# Altium footprint library to-case.PcbLib: 113 footprints (part 1 of 8)
Each footprint in its own frame and in the unit in brackets; x right, y up, seen from the top. Pads: shape width x height; smd on the part's side, far side on the other; paste and mask are expansions set on the pad; w line width, h text height; cw(c..) or ccw(c..) is an arc to the next point about the centre after c.
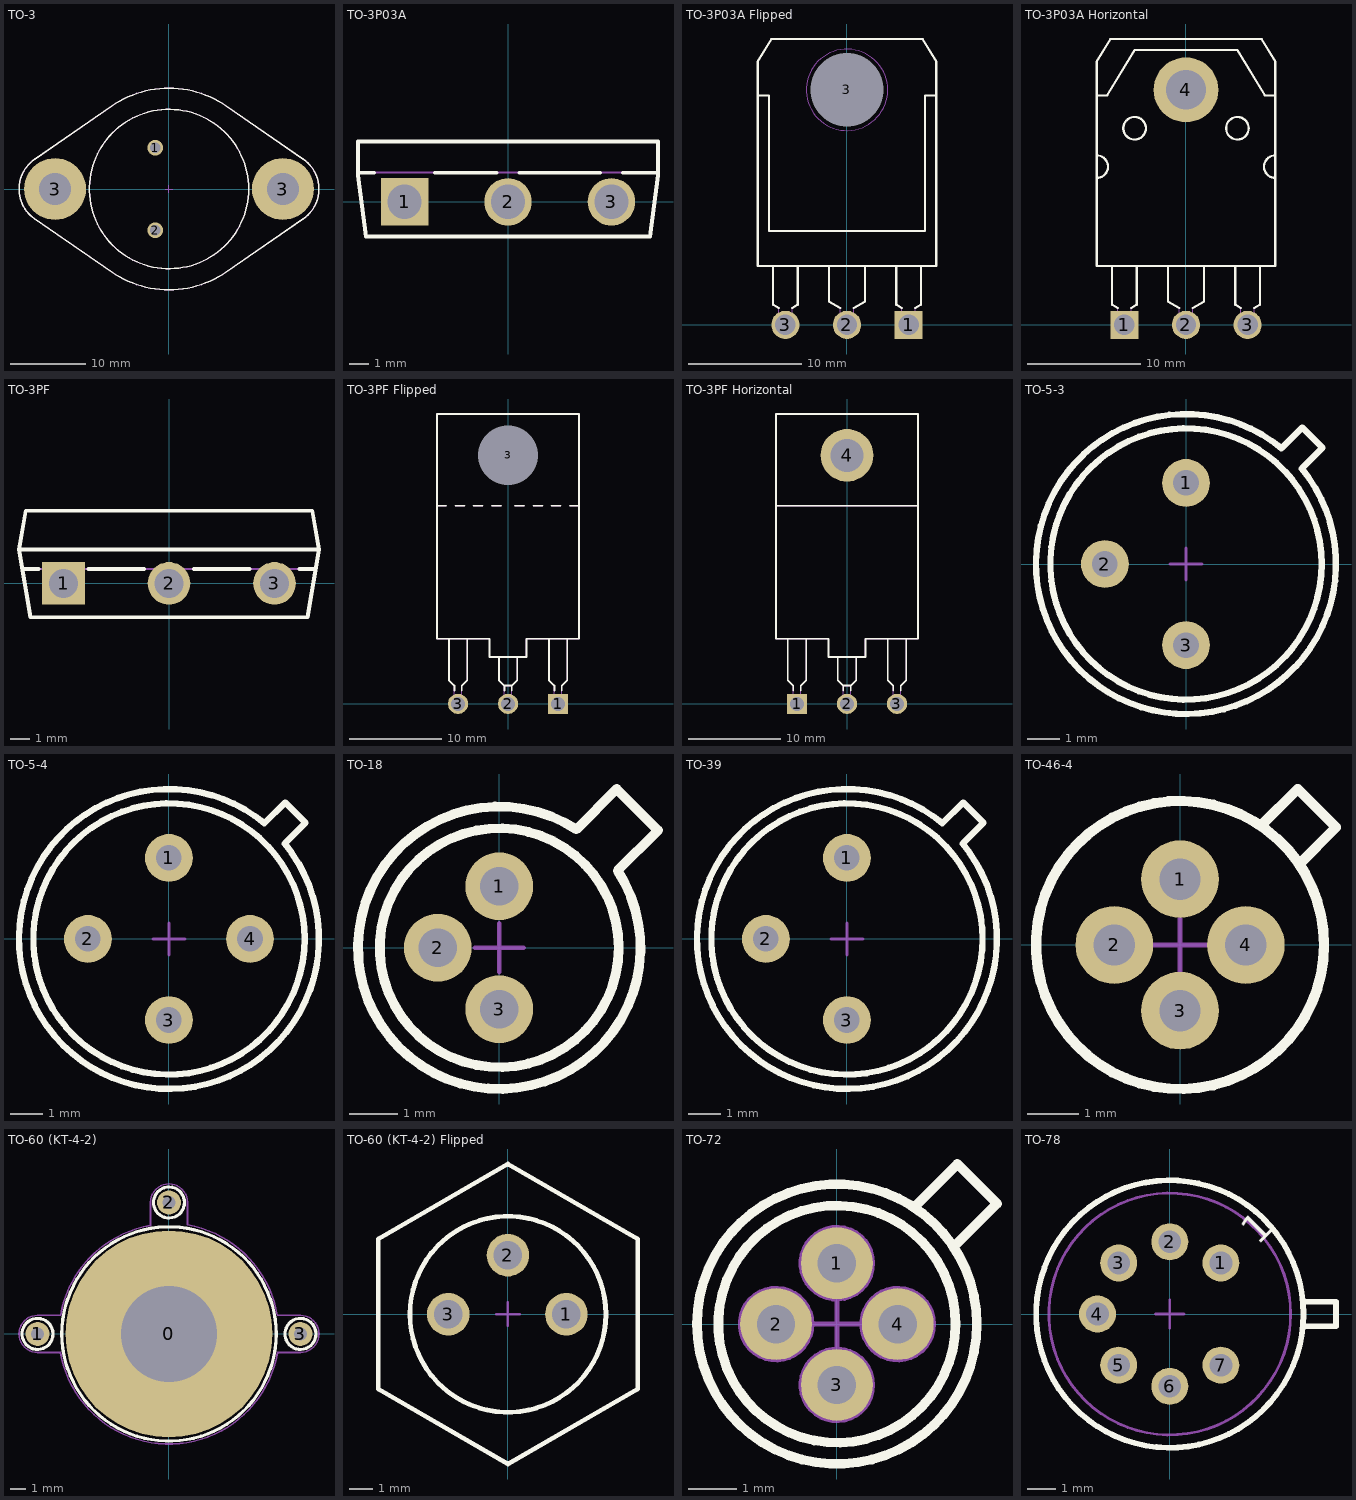
[diagram p0: the footprints below, top view; thin cyan lines are the x and y axes]

## TO-3 [mm] "TO-204 (TO-3) Case"
height 8.51
pads (4):
  round 2.1 hole 1.4: 1(-1.815,5.46) 2(-1.815,-5.46)
  round 8.2 hole 4.2: 3(-15.075,0) 3(15.075,0)
Top Overlay:
  circle w0.2: c0,0 r10.54
  lines w0.2: -17.785,-3.925 cw(c-15.075,0) -17.765,3.939 -7.576,10.974 cw(c0,0) 7.576,10.974 17.765,3.939 cw(c15.075,0) 17.765,-3.939 7.576,-10.974 cw(c0,0) -7.576,-10.974 -17.785,-3.925
Mechanical 1:
  circle w0.1: c0,0 r10.54
  circle w0.1: c-15.075,0 r2.095
  circle w0.1: c15.075,0 r2.095
  circle w0.1: c15.075,0 r1.95
  lines w0.1: -17.785,-3.925 cw(c-15.075,0) -17.765,3.939 -7.576,10.974 cw(c0,0) 7.576,10.974 17.765,3.939 cw(c15.075,0) 17.765,-3.939 7.576,-10.974 cw(c0,0) -7.576,-10.974 -17.785,-3.925
Mechanical 15:
  circle w0.1: c0,0 r10.54
  circle w0.1: c15.075,0 r2.095
  circle w0.1: c15.075,0 r1.95
  circle w0.1: c-15.075,0 r2.095
  lines w0.1: -0.5,0 0,0 ; 0,-0.5 0,0 ; 0,0.5 0,0 ; 0.5,0 0,0 ; -17.785,-3.925 cw(c-15.075,0) -17.765,3.939 -7.576,10.974 cw(c0,0) 7.576,10.974 17.765,3.939 cw(c15.075,0) 17.765,-3.939 7.576,-10.974 cw(c0,0) -7.576,-10.974 -17.785,-3.925
3D body "TO-3.stp": height 8.51, standoff -12.19, extent -19.845,-13.335 19.845,13.335

## TO-3P03A [mm] "FAIRCHILD TO3,  3-Terminal - Vertical Mount"
height 23.8
pads (3):
  rect 2.5x2.5 hole 1.8: 1(-5.45,0)
  round 2.5 hole 1.8: 2(0,0) 3(5.45,0)
Top Overlay:
  lines w0.2: -7.05,1.535 -7.9,1.535 ; -3.85,1.535 -0.605,1.535 ; 0.605,1.535 4.845,1.535 ; 6.055,1.535 7.9,1.535 ; -7.9,1.535 -7.9,1.375 -7.473,-1.825 7.473,-1.825 7.9,1.375 7.9,1.535 ; -7.9,1.535 -7.9,3.175 7.9,3.175 7.9,1.535
Mechanical 1:
  lines w0.1: -7.9,1.535 -7.9,1.375 -7.473,-1.825 7.473,-1.825 7.9,1.375 7.9,1.535 ; -7.9,1.535 -7.9,3.175 0,3.175 7.9,3.175 7.9,1.535 ; -7.9,1.535 7.9,1.535
Mechanical 8:
  lines w0.1: -5.95,0 -5.45,0 ; -5.45,-0.5 -5.45,0 ; -5.45,0.5 -5.45,0 ; -4.95,0 -5.45,0 ; 4.95,0 5.45,0 ; 5.45,-0.5 5.45,0 ; 5.45,0.5 5.45,0 ; 5.95,0 5.45,0
Mechanical 15:
  lines w0.1: -0.5,0 0,0 ; 0,-0.5 0,0 ; 0,0.5 0,0 ; 0.5,0 0,0 ; -7.9,1.535 -7.9,1.375 -7.473,-1.825 7.473,-1.825 7.9,1.375 7.9,1.535 ; -7.9,1.535 -7.9,3.175 0,3.175 7.9,3.175 7.9,1.535 ; -7.9,1.535 7.9,1.535
3D body "FAIRCHILD_TO-3P03A_v.stp": height 25.5, standoff -4, extent -7.9,-1.825 7.9,3.175

## TO-3P03A Flipped [mm] "FAIRCHILD TO3,  3-Terminal - Flipped Horizontal Mount"
height 5
pads (4):
  rect 2.5x2.5 hole 1.8: 1(5.45,0)
  round 2.5 hole 1.8: 2(0,0) 3(-5.45,0)
  round 1.5 hole 6.5 unplated mask+2.5: 3(0,20.8)
Top Overlay:
  lines w0.2: -7.9,20.3 -6.9,20.3 -6.9,8.3 6.9,8.3 6.9,20.3 7.9,20.3 ; -6.55,5.2 -6.55,1.789 -6.05,1.5 ; -4.85,1.5 -4.35,1.789 -4.35,5.2 ; -1.6,5.2 -1.6,2.077 -0.6,1.5 ; 0.6,1.5 1.6,2.077 1.6,5.2 ; 4.35,5.2 4.35,1.789 4.85,1.5 ; 6.05,1.5 6.55,1.789 6.55,5.2 ; -7.9,5.2 -7.9,23.3 -6.7,25.3 6.7,25.3 7.9,23.3 7.9,5.2 -7.9,5.2
Mechanical 1:
  circle w0.1: c0,20.8 r3.6
  circle w0.1: c0,20.8 r1.65
  lines w0.1: -7.9,20.3 -6.9,20.3 -6.9,8.3 6.9,8.3 6.9,20.3 7.9,20.3 ; -6.55,5.2 -6.55,1.789 -6.05,1.5 -6.05,-0.374 ; -6.05,-0.375 -4.85,-0.375 -4.85,1.5 -4.35,1.789 -4.35,5.2 ; -1.6,5.2 -1.6,2.077 -0.6,1.5 -0.6,-0.375 0.6,-0.375 0.6,1.5 1.6,2.077 1.6,5.2 ; 4.35,5.2 4.35,1.789 4.85,1.5 4.85,-0.375 6.05,-0.375 ; 6.05,-0.349 6.05,1.5 6.55,1.789 6.55,5.2 ; -7.9,5.2 -7.9,23.3 -6.7,25.3 6.7,25.3 7.9,23.3 7.9,5.2 -7.9,5.2
Mechanical 8:
  lines w0.1: -5.95,0 -5.45,0 ; -5.45,-0.5 -5.45,0 ; -5.45,0.5 -5.45,0 ; -4.95,0 -5.45,0 ; -0.5,20.8 0,20.8 ; 0,20.3 0,20.8 ; 0,21.3 0,20.8 ; 0.5,20.8 0,20.8 ; 4.95,0 5.45,0 ; 5.45,-0.5 5.45,0 ; 5.45,0.5 5.45,0 ; 5.95,0 5.45,0
Mechanical 15:
  circle w0.1: c0,20.8 r1.65
  circle w0.1: c0,20.8 r3.6
  lines w0.1: -7.9,20.3 -6.9,20.3 -6.9,8.3 6.9,8.3 6.9,20.3 7.9,20.3 ; -6.55,5.2 -6.55,1.789 -6.05,1.5 -6.05,-0.374 ; -6.05,-0.375 -4.85,-0.375 -4.85,1.5 -4.35,1.789 -4.35,5.2 ; -1.6,5.2 -1.6,2.077 -0.6,1.5 -0.6,-0.375 0.6,-0.375 0.6,1.5 1.6,2.077 1.6,5.2 ; -0.5,0 0,0 ; 0,-0.5 0,0 ; 0,0.5 0,0 ; 0.5,0 0,0 ; 4.35,5.2 4.35,1.789 4.85,1.5 4.85,-0.375 6.05,-0.375 ; 6.05,-0.349 6.05,1.5 6.55,1.789 6.55,5.2 ; -7.9,5.2 7.9,5.2 7.9,23.3 6.7,25.3 -6.7,25.3 -7.9,23.3 -7.9,5.2
3D body "FAIRCHILD_TO-3P03A_hflip.stp": height 5, standoff -3.8, extent -7.9,-0.375 7.9,25.3

## TO-3P03A Horizontal [mm] "FAIRCHILD TO3,  3-Terminal - Horizontal Mount"
height 5
pads (4):
  rect 2.5x2.5 hole 1.8: 1(-5.45,0)
  round 2.5 hole 1.8: 2(0,0) 3(5.45,0)
  round 5.75 hole 3.5: 4(0,20.8)
Top Overlay:
  circle w0.2: c-4.55,17.4 r1
  circle w0.2: c4.55,17.4 r1
  lines w0.2: -7.9,13 ccw(c-7.9,14) -7.9,15 ; -7.9,20.3 -6.975,20.3 -4.562,24.321 4.562,24.321 6.975,20.3 7.873,20.3 ; -6.55,5.2 -6.55,1.789 -6.05,1.5 ; -4.85,1.5 -4.35,1.789 -4.35,5.2 ; -1.6,5.2 -1.6,2.077 -0.6,1.5 ; 0.6,1.5 1.6,2.077 1.6,5.2 ; 4.35,5.2 4.35,1.789 4.85,1.5 ; 6.05,1.5 6.55,1.789 6.55,5.2 ; 7.9,13 cw(c7.9,14) 7.9,15 ; -7.9,5.2 7.9,5.2 7.9,23.3 6.7,25.3 -6.7,25.3 -7.9,23.3 -7.9,5.2
Mechanical 1:
  circle w0.1: c4.55,17.4 r1
  circle w0.1: c0,20.8 r1.65
  circle w0.1: c-4.55,17.4 r1
  lines w0.1: -7.9,13 ccw(c-7.9,14) -7.9,15 ; -7.9,20.3 -6.975,20.3 -4.562,24.321 4.562,24.321 6.975,20.3 7.873,20.3 ; -6.55,5.2 -6.55,1.789 -6.05,1.5 -6.05,-0.374 ; -6.05,-0.375 -4.85,-0.375 -4.85,1.5 -4.35,1.789 -4.35,5.2 ; -1.6,5.2 -1.6,2.077 -0.6,1.5 -0.6,-0.375 0.6,-0.375 0.6,1.5 1.6,2.077 1.6,5.2 ; 4.35,5.2 4.35,1.789 4.85,1.5 4.85,-0.375 6.05,-0.375 ; 6.05,-0.349 6.05,1.5 6.55,1.789 6.55,5.2 ; 7.9,13 cw(c7.9,14) 7.9,15 ; -7.9,5.2 7.9,5.2 7.9,23.3 6.7,25.3 -6.7,25.3 -7.9,23.3 -7.9,5.2
Mechanical 8:
  lines w0.1: -5.95,0 -5.45,0 ; -5.45,-0.5 -5.45,0 ; -5.45,0.5 -5.45,0 ; -4.95,0 -5.45,0 ; -0.5,20.8 0,20.8 ; 0,20.3 0,20.8 ; 0,21.3 0,20.8 ; 0.5,20.8 0,20.8 ; 4.95,0 5.45,0 ; 5.45,-0.5 5.45,0 ; 5.45,0.5 5.45,0 ; 5.95,0 5.45,0
Mechanical 15:
  circle w0.1: c0,20.8 r1.65
  circle w0.1: c4.55,17.4 r1
  circle w0.1: c-4.55,17.4 r1
  lines w0.1: -7.9,13 ccw(c-7.9,14) -7.9,15 ; -7.9,20.3 -6.975,20.3 -4.562,24.321 4.562,24.321 6.975,20.3 7.873,20.3 ; -6.55,5.2 -6.55,1.789 -6.05,1.5 -6.05,-0.374 ; -6.05,-0.375 -4.85,-0.375 -4.85,1.5 -4.35,1.789 -4.35,5.2 ; -1.6,5.2 -1.6,2.077 -0.6,1.5 -0.6,-0.375 0.6,-0.375 0.6,1.5 1.6,2.077 1.6,5.2 ; -0.5,0 0,0 ; 0,-0.5 0,0 ; 0,0.5 0,0 ; 0.5,0 0,0 ; 4.35,5.2 4.35,1.789 4.85,1.5 4.85,-0.375 6.05,-0.375 ; 6.05,-0.349 6.05,1.5 6.55,1.789 6.55,5.2 ; 7.9,13 cw(c7.9,14) 7.9,15 ; -7.9,5.2 7.9,5.2 7.9,23.3 6.7,25.3 -6.7,25.3 -7.9,23.3 -7.9,5.2
3D body "FAIRCHILD_TO-3P03A_h.stp": height 5, standoff -2.45, extent -7.9,-0.375 7.9,25.3

## TO-3PF [mm] "FAIRCHILD TO-3PF 3-Terminal - Vertical Mount"
height 29.4
pads (3):
  rect 2.2x2.2 hole 1.5: 1(-5.45,0)
  round 2.2 hole 1.5: 2(0,0) 3(5.45,0)
Top Overlay:
  lines w0.2: -7.579,0.75 -6.749,0.75 ; -4.151,0.75 -1.299,0.75 ; 1.299,0.75 4.151,0.75 ; 6.749,0.75 7.579,0.75 ; -7.75,1.75 -7.4,3.75 7.4,3.75 7.75,1.75 ; -7.75,1.75 -7.15,-1.75 7.15,-1.75 7.75,1.75 ; -7.75,1.75 7.75,1.75
Mechanical 1:
  lines w0.1: -7.579,0.75 7.579,0.75 ; -7.75,1.75 -7.4,3.75 7.4,3.75 7.75,1.75 ; -7.75,1.75 -7.15,-1.75 7.15,-1.75 7.75,1.75 ; -7.75,1.75 7.75,1.75
Mechanical 8:
  lines w0.1: -6.45,0 -5.45,0 ; -5.45,-1 -5.45,0 ; -5.45,1 -5.45,0 ; -4.45,0 -5.45,0 ; 4.45,0 5.45,0 ; 5.45,-1 5.45,0 ; 5.45,1 5.45,0 ; 6.45,0 5.45,0
Mechanical 15:
  lines w0.1: -7.579,0.75 7.579,0.75 ; -1,0 0,0 ; 0,-1 0,0 ; 0,1 0,0 ; 1,0 0,0 ; -7.75,1.75 -7.4,3.75 7.4,3.75 7.75,1.75 ; -7.75,1.75 -7.15,-1.75 7.15,-1.75 7.75,1.75 ; -7.75,1.75 7.75,1.75
3D body "FAIRCHILD_TO-3PF_v.stp": height 30.5, standoff -13.3, extent -7.75,-1.75 7.75,3.75

## TO-3PF Flipped [mm] "FAIRCHILD TO-3PF 3-Terminal - Flipped Horizontal Mount"
height 5.7
pads (4):
  rect 2.2x2.2 hole 1.5: 1(5.45,0)
  round 2.2 hole 1.5: 2(0,0) 3(-5.45,0)
  round 1.5 hole 6.5 unplated mask+2.5: 3(0,27.1)
Top Overlay:
  lines w0.2: -7.75,21.6 -6.75,21.6 ; -6.45,7.1 -6.45,2.6 -5.85,2 -5.85,1.446 ; -5.75,21.6 -4.75,21.6 ; -5.05,1.446 -5.05,2 -4.45,2.6 -4.45,7.1 ; -3.75,21.6 -2.75,21.6 ; -1.75,21.6 -0.75,21.6 ; -1,5.1 -1,2.6 -0.4,2 ; -0.4,1.446 -0.4,2 ; 0.4,1.446 0.4,2 ; 0.75,21.6 1.75,21.6 ; 1,5.1 1,2.6 0.4,2 ; 2.75,21.6 3.75,21.6 ; 4.45,7.1 4.45,2.6 5.05,2 5.05,1.446 ; 4.75,21.6 5.75,21.6 ; 5.85,1.446 5.85,2 6.45,2.6 6.45,7.1 ; 6.75,21.6 7.75,21.6 ; -0.4,2 0.4,2 ; -7.75,7.1 -7.75,31.6 7.75,31.6 7.75,7.1 2,7.1 2,5.1 -2,5.1 -2,7.1 -7.75,7.1
Mechanical 1:
  circle w0.1: c0,27.1 r1.8
  lines w0.1: -7.75,21.6 -6.75,21.6 ; -6.45,7.1 -6.45,2.6 -5.85,2 -5.85,-0.45 -5.05,-0.45 -5.05,2 -4.45,2.6 -4.45,7.1 ; -5.75,21.6 -4.75,21.6 ; -3.75,21.6 -2.75,21.6 ; -1.75,21.6 -0.75,21.6 ; -1,5.1 -1,2.6 -0.4,2 ; 0.75,21.6 1.75,21.6 ; 1,5.1 1,2.6 0.4,2 ; 2.75,21.6 3.75,21.6 ; 4.45,7.1 4.45,2.6 5.05,2 5.05,-0.45 5.85,-0.45 5.85,2 6.45,2.6 6.45,7.1 ; 4.75,21.6 5.75,21.6 ; 6.75,21.6 7.75,21.6 ; -0.4,2 -0.4,-0.45 0.4,-0.45 0.4,2 ; -0.4,2 0.4,2 ; -7.75,7.1 -2,7.1 -2,5.1 2,5.1 2,7.1 7.75,7.1 7.75,31.6 -7.75,31.6 -7.75,7.1
Mechanical 8:
  lines w0.1: -6.45,0 -5.45,0 ; -5.45,-1 -5.45,0 ; -5.45,1 -5.45,0 ; -4.45,0 -5.45,0 ; -1,27.1 0,27.1 ; 0,26.1 0,27.1 ; 0,28.1 0,27.1 ; 1,27.1 0,27.1 ; 4.45,0 5.45,0 ; 5.45,-1 5.45,0 ; 5.45,1 5.45,0 ; 6.45,0 5.45,0
Mechanical 15:
  circle w0.1: c-0.002,27.095 r1.8
  lines w0.1: -7.752,21.595 -6.752,21.595 ; -6.452,7.095 -6.452,2.595 -5.852,1.995 -5.852,-0.455 -5.052,-0.455 -5.052,1.995 -4.452,2.595 -4.452,7.095 ; -5.752,21.595 -4.752,21.595 ; -3.752,21.595 -2.752,21.595 ; -1.752,21.595 -0.752,21.595 ; -1.002,5.095 -1.002,2.595 -0.402,1.995 ; -1,0 0,0 ; 0,-1 0,0 ; 0,1 0,0 ; 0.748,21.595 1.748,21.595 ; 0.998,5.095 0.998,2.595 0.398,1.995 ; 1,0 0,0 ; 2.748,21.595 3.748,21.595 ; 4.448,7.095 4.448,2.595 5.048,1.995 5.048,-0.455 5.848,-0.455 5.848,1.995 6.448,2.595 6.448,7.095 ; 4.748,21.595 5.748,21.595 ; 6.748,21.595 7.748,21.595 ; -0.402,1.995 -0.402,-0.455 0.398,-0.455 0.398,1.995 ; -0.402,1.995 0.398,1.995 ; -7.752,7.095 -7.752,31.595 7.748,31.595 7.748,7.095 1.998,7.095 1.998,5.095 -2.002,5.095 -2.002,7.095 -7.752,7.095
3D body "FAIRCHILD_TO-3PF_hflip.stp": height 5.5, standoff -5.8, extent -7.75,-0.45 7.75,31.6

## TO-3PF Horizontal [mm] "FAIRCHILD TO-3PF 3-Terminal - Horizontal Mount"
height 5.7
pads (4):
  rect 2.2x2.2 hole 1.5: 1(-5.45,0)
  round 2.2 hole 1.5: 2(0,0) 3(5.45,0)
  round 5.75 hole 3.6: 4(0,27.1)
Top Overlay:
  lines w0.2: -7.579,21.6 7.579,21.6 ; -6.45,7.1 -6.45,2.6 -5.85,2 -5.85,1.446 ; -5.05,1.446 -5.05,2 -4.45,2.6 -4.45,7.1 ; -1,5.1 -1,2.6 -0.4,2 ; -0.4,1.446 -0.4,2 ; 0.4,1.446 0.4,2 ; 1,5.1 1,2.6 0.4,2 ; 4.45,7.1 4.45,2.6 5.05,2 5.05,1.446 ; 5.85,1.446 5.85,2 6.45,2.6 6.45,7.1 ; -0.4,2 0.4,2 ; -7.75,7.1 -7.75,31.6 7.75,31.6 7.75,7.1 2,7.1 2,5.1 -2,5.1 -2,7.1 -7.75,7.1
Mechanical 1:
  circle w0.1: c0,27.1 r1.8
  lines w0.1: -7.579,21.6 7.579,21.6 ; -6.45,7.1 -6.45,2.6 -5.85,2 -5.85,-0.45 -5.05,-0.45 -5.05,2 -4.45,2.6 -4.45,7.1 ; -1,5.1 -1,2.6 -0.4,2 ; 1,5.1 1,2.6 0.4,2 ; 4.45,7.1 4.45,2.6 5.05,2 5.05,-0.45 5.85,-0.45 5.85,2 6.45,2.6 6.45,7.1 ; -0.4,2 -0.4,-0.45 0.4,-0.45 0.4,2 ; -0.4,2 0.4,2 ; -7.75,7.1 -2,7.1 -2,5.1 2,5.1 2,7.1 7.75,7.1 7.75,31.6 -7.75,31.6 -7.75,7.1
Mechanical 8:
  lines w0.1: -6.45,0 -5.45,0 ; -5.45,-1 -5.45,0 ; -5.45,1 -5.45,0 ; -4.45,0 -5.45,0 ; -1,27.1 0,27.1 ; 0,26.1 0,27.1 ; 0,28.1 0,27.1 ; 1,27.1 0,27.1 ; 4.45,0 5.45,0 ; 5.45,-1 5.45,0 ; 5.45,1 5.45,0 ; 6.45,0 5.45,0
Mechanical 15:
  circle w0.1: c0,27.1 r1.8
  lines w0.1: -7.579,21.6 7.579,21.6 ; -6.45,7.1 -6.45,2.6 -5.85,2 -5.85,-0.45 -5.05,-0.45 -5.05,2 -4.45,2.6 -4.45,7.1 ; -1,0 0,0 ; -1,5.1 -1,2.6 -0.4,2 ; 0,-1 0,0 ; 0,1 0,0 ; 1,0 0,0 ; 1,5.1 1,2.6 0.4,2 ; 4.45,7.1 4.45,2.6 5.05,2 5.05,-0.45 5.85,-0.45 5.85,2 6.45,2.6 6.45,7.1 ; -0.4,2 -0.4,-0.45 0.4,-0.45 0.4,2 ; -0.4,2 0.4,2 ; -7.75,7.1 -2,7.1 -2,5.1 2,5.1 2,7.1 7.75,7.1 7.75,31.6 -7.75,31.6 -7.75,7.1
3D body "FAIRCHILD_TO-3PF_h.stp": height 5.5, standoff -3.8, extent -7.75,-0.45 7.75,31.6

## TO-5-3 [mm] "TO-5, 3 Leads"
height 11.25
pads (3):
  round 1.5 hole 0.8: 1(0,2.54) 2(-2.54,0) 3(0,-2.54)
Top Overlay:
  circle w0.2: c0,0 r4.25
  lines w0.2: 2.99,3.626 ccw(c0,0) 3.626,2.99 4.278,3.642 3.642,4.278 2.99,3.626
Mechanical 1:
  circle w0.1: c0,0 r4.25
  lines w0.1: 2.99,3.626 ccw(c0,0) 3.626,2.99 4.278,3.642 3.642,4.278 2.99,3.626
Mechanical 8:
  lines w0.1: -3.04,0 -2.54,0 ; -2.54,-0.5 -2.54,0 ; -2.54,0.5 -2.54,0 ; -2.04,0 -2.54,0 ; -0.5,-2.54 0,-2.54 ; -0.5,2.54 0,2.54 ; 0,-3.04 0,-2.54 ; 0,-2.04 0,-2.54 ; 0,2.04 0,2.54 ; 0,3.04 0,2.54 ; 0.5,-2.54 0,-2.54 ; 0.5,2.54 0,2.54
Mechanical 15:
  circle w0.1: c0,0 r4.25
  lines w0.1: -0.5,0 0,0 ; 0,-0.5 0,0 ; 0,0.5 0,0 ; 0.5,0 0,0 ; 2.99,3.626 ccw(c0,0) 3.626,2.99 4.278,3.642 3.642,4.278 2.99,3.626
3D body "TO-5-3.stp": height 11.25, standoff -3.65, extent -4.7,-4.699 4.7,4.699

## TO-5-4 [mm] "TO-5, 4 Leads"
height 11.25
pads (4):
  round 1.5 hole 0.8: 1(0,2.54) 2(-2.54,0) 3(0,-2.54) 4(2.54,0)
Top Overlay:
  circle w0.2: c0,0 r4.25
  lines w0.2: 2.99,3.626 ccw(c0,0) 3.626,2.99 4.278,3.642 3.642,4.278 2.99,3.626
Mechanical 1:
  circle w0.1: c0,0 r4.25
  lines w0.1: 2.99,3.626 ccw(c0,0) 3.626,2.99 4.278,3.642 3.642,4.278 2.99,3.626
Mechanical 8:
  lines w0.1: -3.04,0 -2.54,0 ; -2.54,-0.5 -2.54,0 ; -2.54,0.5 -2.54,0 ; -2.04,0 -2.54,0 ; -0.5,-2.54 0,-2.54 ; -0.5,2.54 0,2.54 ; 0,-3.04 0,-2.54 ; 0,-2.04 0,-2.54 ; 0,2.04 0,2.54 ; 0,3.04 0,2.54 ; 0.5,-2.54 0,-2.54 ; 0.5,2.54 0,2.54
Mechanical 15:
  circle w0.1: c0.002,-0.002 r4.25
  lines w0.1: -0.5,0 0,0 ; 0,-0.5 0,0 ; 0,0.5 0,0 ; 0.5,0 0,0 ; 2.992,3.624 ccw(c0.002,-0.002) 3.629,2.988 4.28,3.639 3.644,4.276 2.992,3.624
3D body "TO-5-4.stp": height 11.25, standoff -3.65, extent -4.7,-4.699 4.7,4.699

## TO-18 [mm] "TO-18  3 Leads, Pitch 2.54mm, Body Dia. 5.84mm, Leads Dia. 0.5mm"
height 10.13
pads (3):
  round 1.4 hole 0.8: 1(0,1.27) 2(-1.27,0) 3(0,-1.27)
Top Overlay:
  circle w0.2: c0,0 r2.47
  lines w0.2: 1.593,2.447 ccw(c0,0) 2.447,1.593 3.282,2.428 2.428,3.282 1.593,2.447
Mechanical 1:
  circle w0.1: c0,0 r2.47
  lines w0.1: 1.593,2.447 ccw(c0,0) 2.447,1.593 3.282,2.428 2.428,3.282 1.593,2.447
Mechanical 15:
  circle w0.1: c0,0 r2.47
  lines w0.1: -0.5,0 0,0 ; 0,-0.5 0,0 ; 0,0.5 0,0 ; 0.5,0 0,0 ; 1.593,2.447 ccw(c0,0) 2.447,1.593 3.282,2.428 2.428,3.282 1.593,2.447
3D body "TO-18.stp": height 10.13, standoff -3.6, extent -2.92,-2.92 3.282,3.282

## TO-39 [mm] "TO-39  3 Leads, Pitch 2.54mm, Body Dia. 9.4mm, Leads Dia. 0.5mm"
height 6.6
pads (3):
  round 1.5 hole 0.8: 1(0,2.54) 2(-2.54,0) 3(0,-2.54)
Top Overlay:
  circle w0.2: c0,0 r4.25
  lines w0.2: 2.99,3.626 ccw(c0,0) 3.626,2.99 4.278,3.642 3.642,4.278 2.99,3.626
Mechanical 1:
  circle w0.1: c0,0 r4.25
  lines w0.1: 2.99,3.626 ccw(c0,0) 3.626,2.99 4.278,3.642 3.642,4.278 2.99,3.626
Mechanical 8:
  lines w0.1: -3.04,0 -2.54,0 ; -2.54,-0.5 -2.54,0 ; -2.54,0.5 -2.54,0 ; -2.04,0 -2.54,0 ; -0.5,-2.54 0,-2.54 ; -0.5,2.54 0,2.54 ; 0,-3.04 0,-2.54 ; 0,-2.04 0,-2.54 ; 0,2.04 0,2.54 ; 0,3.04 0,2.54 ; 0.5,-2.54 0,-2.54 ; 0.5,2.54 0,2.54
Mechanical 15:
  circle w0.1: c0.003,-0.002 r4.25
  lines w0.1: -0.5,0 0,0 ; 0,-0.5 0,0 ; 0,0.5 0,0 ; 0.5,0 0,0 ; 2.993,3.624 ccw(c0.003,-0.002) 3.629,2.987 4.281,3.639 3.644,4.276 2.993,3.624
3D body "TO-39.stp": height 11.25, standoff -3.65, extent -4.7,-4.7 4.7,4.7

## TO-46-4 [mm] "JEDEC TO-48, 4 Leads"
height 3.93
pads (4):
  round 1.5 hole 0.8: 1(0,1.27) 2(-1.27,0) 3(0,-1.27) 4(1.27,0)
Top Overlay:
  circle w0.2: c0,0 r2.782
  lines w0.2: 1.563,2.299 2.277,3.013 3.013,2.277 2.299,1.563
Mechanical 1:
  circle w0.1: c0,0 r2.782
  lines w0.1: 1.563,2.299 2.277,3.013 3.013,2.277 2.299,1.563
Mechanical 15:
  circle w0.1: c0,0 r2.782
  lines w0.1: -0.5,0 0,0 ; 0,-0.5 0,0 ; 0,0.5 0,0 ; 0.5,0 0,0 ; 1.563,2.299 2.277,3.013 3.013,2.277 2.299,1.563
3D body "TO-46-4.stp": height 3.94, standoff -3.6, extent -2.777,-2.78 3.013,3.013

## TO-60 (KT-4-2) [mm] "TO-60 (KT-4-2) Case - Vertical Mount"
height 8.51
pads (4):
  round 13 hole 6 paste+0 mask+0.102: 0(0,0)
  round 1.5 hole 0.8: 1(-8.25,0) 2(0,8.25) 3(8.25,-0.001)
Top Overlay:
  circle w0.2: c8.25,-0.001 r0.972
  circle w0.2: c0,8.25 r0.972
  circle w0.2: c-8.25,0 r0.972
  circle w0.2: c0,0 r6.725
Mechanical 1:
  circle w0.1: c-2.5,0 r0.7
  circle w0.1: c-2.5,0 r0.5
  circle w0.1: c0,-0.001 r4.15
  circle w0.1: c0.005,2.5 r0.7
  circle w0.1: c0.005,2.5 r0.5
  circle w0.1: c2.5,0 r0.7
  circle w0.1: c2.5,0 r0.5
  lines w0.1: 0.004,-6.34 -5.494,-3.166 -5.494,3.185 0.001,6.357 5.499,3.183 ; 0.005,-6.342 5.5,-3.169 5.5,3.182
Mechanical 15:
  lines w0.1: -1.164,6.806 ccw(c0,0) -6.806,1.163 -8.25,1.163 ccw(c-8.25,0) -8.25,-1.163 -6.811,-1.163 ccw(c0,0) 6.811,-1.161 8.25,-1.161 ccw(c8.25,0.002) 8.25,1.165 6.799,1.165 ; -1.163,6.807 -1.163,8.25 cw(c0,8.25) 1.163,8.25 1.163,6.84 cw(c-0.015,0.036) 6.797,1.165 ; -0.5,0 0,0 ; 0,-0.5 0,0 ; 0,0.5 0,0 ; 0.5,0 0,0
3D body "VT_КТ-4-2.STEP": height 10.2, standoff -11, extent -5.5,-6.351 5.5,6.351

## TO-60 (KT-4-2) Flipped [mm] "TO-60 (KT-4-2) Case - Flipped Vertical Mount"
height 8.51
pads (3):
  round 1.8 hole 1.2: 1(2.475,-0.001) 2(0,2.5) 3(-2.525,0)
Top Overlay:
  circle w0.2: c0.001,-0.001 r4.15
  lines w0.2: 0.005,-6.34 -5.493,-3.166 -5.493,3.185 0.001,6.357 5.499,3.183 ; 0.006,-6.342 5.5,-3.169 5.5,3.181
Mechanical 1:
  circle w0.1: c2.5,0 r0.5
  circle w0.1: c2.5,0 r0.7
  circle w0.1: c0.005,2.5 r0.5
  circle w0.1: c0.005,2.5 r0.7
  circle w0.1: c0,-0.001 r4.15
  circle w0.1: c-2.5,0 r0.5
  circle w0.1: c-2.5,0 r0.7
  lines w0.1: 0.004,-6.34 -5.494,-3.166 -5.494,3.185 0.001,6.357 5.499,3.183 ; 0.005,-6.342 5.5,-3.169 5.5,3.182
Mechanical 15:
  lines w0.1: -0.5,0 0,0 ; 0,-0.5 0,0 ; 0,0.5 0,0 ; 0.005,-6.336 -5.493,-3.162 -5.493,3.189 0.002,6.361 5.5,3.187 ; 0.006,-6.338 5.501,-3.165 5.501,3.185 ; 0.5,0 0,0
3D body "VT_КТ-4-2.STEP": height 18.42, standoff -2.78, extent -5.5,-6.351 5.5,6.351

## TO-72 [mm] "JEDEC TO-72 (TO-206AF), 4 Leads"
height 5.33
pads (4):
  round 1.5 hole 0.8: 1(0,1.27) 2(-1.27,0) 3(0,-1.27) 4(1.27,0)
Top Overlay:
  circle w0.2: c0,0 r2.92
  circle w0.2: c0,0 r2.475
  lines w0.2: 1.609,2.437 2.514,3.341 3.341,2.514 2.437,1.609
Mechanical 1:
  circle w0.1: c0,0 r2.92
  circle w0.1: c0,0 r2.475
  lines w0.1: 1.609,2.437 2.514,3.341 3.341,2.514 2.437,1.609
Mechanical 8:
  circle w0.1: c0,1.27 r0.75
  circle w0.1: c-1.27,0 r0.75
  circle w0.1: c1.27,0 r0.75
  circle w0.1: c0,-1.27 r0.75
  lines w0.1: -1.77,0 -1.27,0 ; -1.27,-0.5 -1.27,0 ; -1.27,0.5 -1.27,0 ; -0.77,0 -1.27,0 ; -0.5,-1.27 0,-1.27 ; -0.5,1.27 0,1.27 ; 0,-1.77 0,-1.27 ; 0,-0.77 0,-1.27 ; 0,0.77 0,1.27 ; 0,1.77 0,1.27 ; 0.5,-1.27 0,-1.27 ; 0.5,1.27 0,1.27 ; 0.77,0 1.27,0 ; 1.27,-0.5 1.27,0 ; 1.27,0.5 1.27,0 ; 1.77,0 1.27,0
Mechanical 15:
  circle w0.1: c0,0 r2.475
  circle w0.1: c0,0 r2.92
  lines w0.1: -0.5,0 0,0 ; 0,-0.5 0,0 ; 0,0.5 0,0 ; 0.5,0 0,0 ; 1.609,2.437 2.514,3.341 3.341,2.514 2.437,1.609
3D body "TO-72.stp": height 6.13, standoff -3, extent -2.92,-2.916 3.341,3.341

## TO-78 [mm] "TO-78 7 Leads, Body Dia. 9.4mm (max), Lead Diameter 5.08mm"
height 4.7
pads (7):
  round 1.3 hole 0.8: 1(1.796,1.796) 2(0,2.54) 3(-1.796,1.796) 4(-2.54,0) 5(-1.796,-1.796) 6(0,-2.54) 7(1.796,-1.796)
Top Overlay:
  circle w0.2: c0,0 r4.699
  lines w0.2: 4.679,-0.432 5.842,-0.432 5.842,0.432 4.679,0.432
  text "1" at 3.098,2.391 h1
Mechanical 1:
  circle w0.1: c0,0 r4.699
  circle w0.1: c0,0 r4.25
  lines w0.1: 4.679,-0.432 5.842,-0.432 5.842,0.432 4.679,0.432
  text "1" at 3.098,2.391 h1
Mechanical 15:
  circle w0.1: c-0.002,0.002 r4.699
  circle w0.1: c-0.002,0.002 r4.25
  lines w0.1: -0.5,0 0,0 ; 0,-0.5 0,0 ; 0,0.5 0,0 ; 0.5,0 0,0 ; 4.677,-0.43 5.84,-0.43 5.84,0.434 4.677,0.434
3D body "TO-78.stp": height 4.7, standoff -3.6, extent -4.695,-4.695 5.835,4.695